# Altium schematic symbol library My Library.SCHLIB: 126 symbols
Pins are listed as number, name and electrical type; pins without a type are passive.

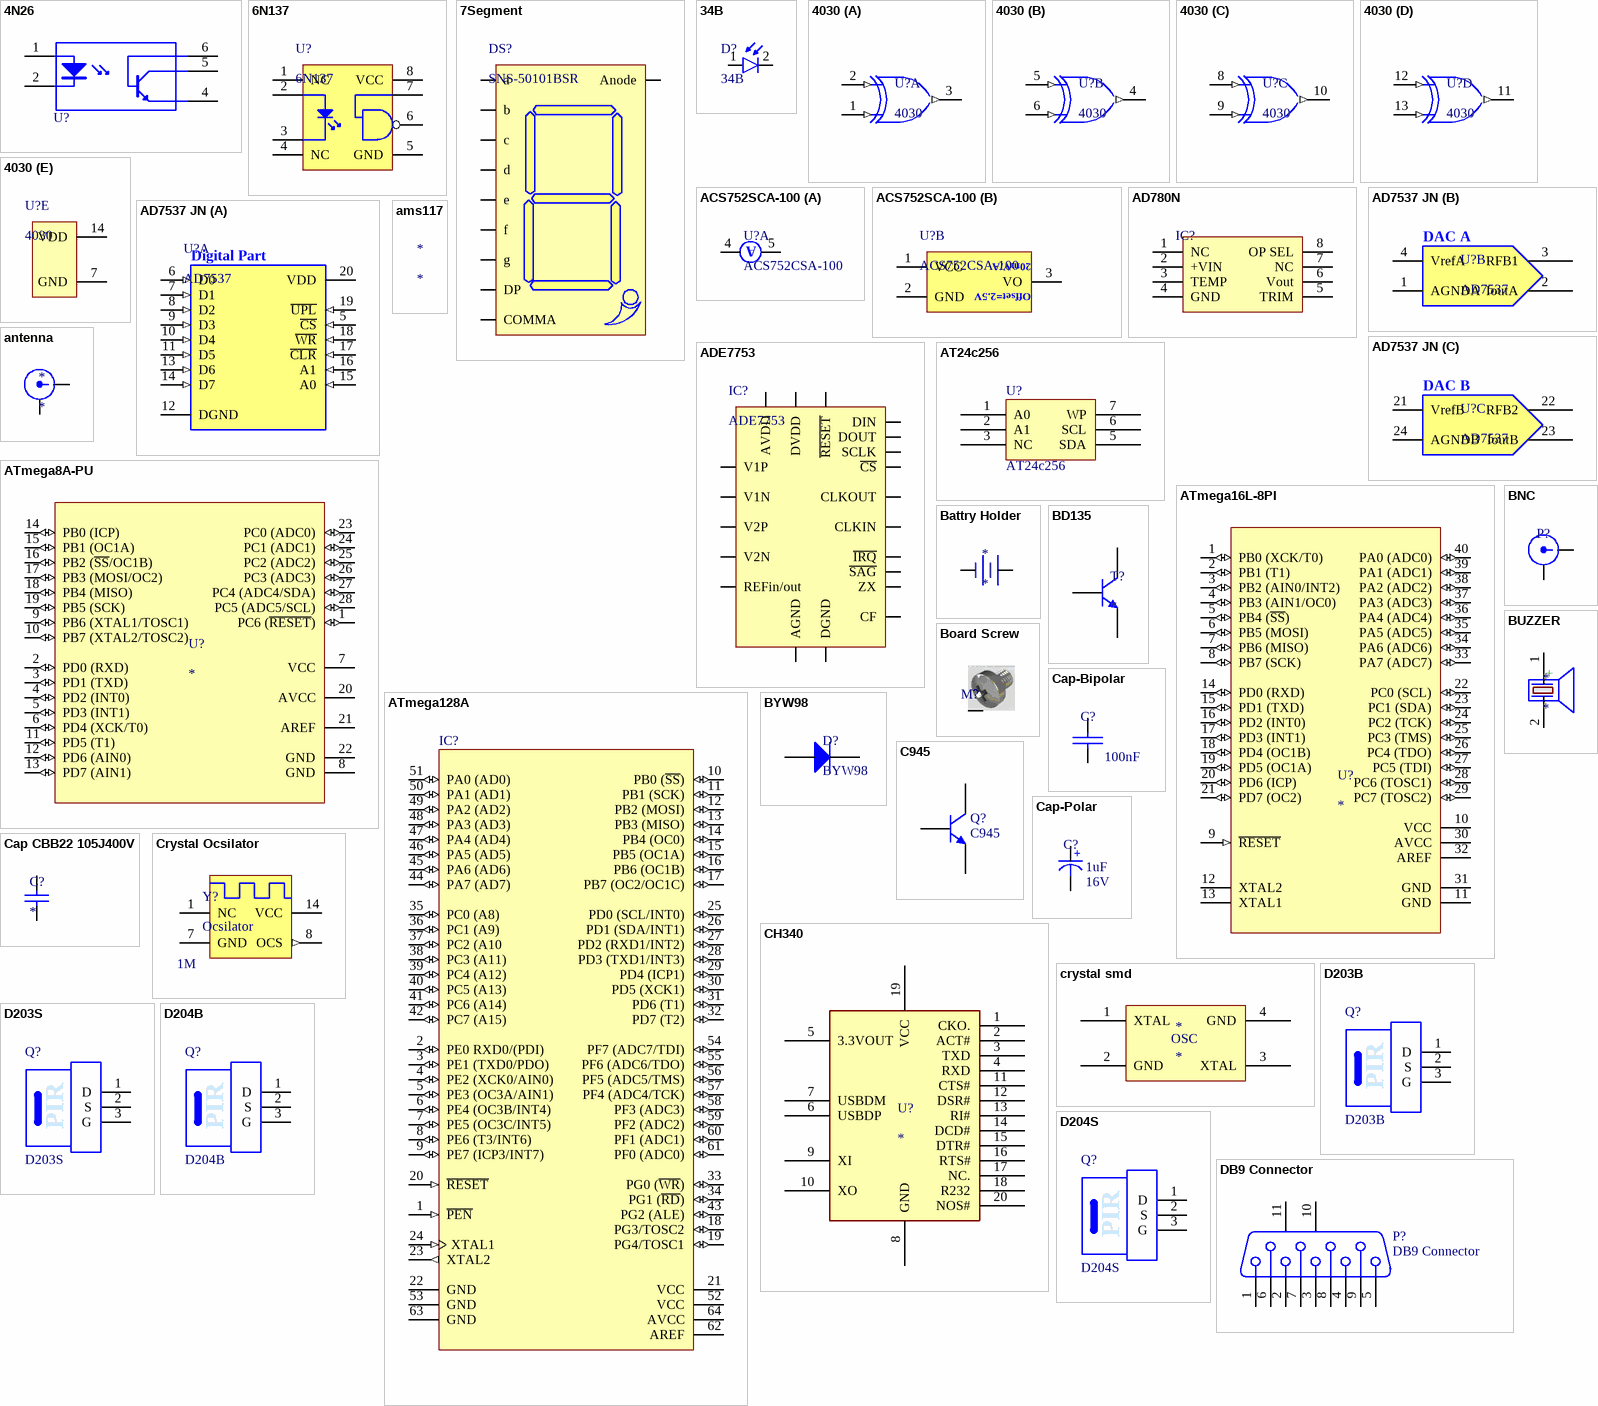
[diagram p0: symbols 4N26 to DB9 Connector]

## 4N26
designator U?  (value not drawn)
Opto Coupler
footprint 4N26
pins: 1 A, 2 K, 4 E, 5 C, 6 B

## 6N137
designator U?
HIGH SPEED-10 MBit/s  LOGIC GATE OPTOCOUPLERS; Designer: Saeid Jorablo; Company: ControTEK; Adding Date: 1387/01/08
footprint DIP8
pins: 1 NC, 2 A, 3 K, 4 NC, 5 GND, 6 Vo, 7 Ve, 8 VCC

## 7Segment
designator DS?, comment SNS-50101BSR
footprint 7Segment
pins: 1 e, 2 d, 3 COMMA, 4 DP, 5 c, 6 b, 7 a, 8 Anode, 9 g, 10 f

## 34B
designator D?
Photodiode; Designer: Saeid Jorablo; Company: Personal; Project Name: Laser; Adding Date: 10/21/2009
footprint 34b
pins: 1 A, 2 K

## 4030
designator U?
Quad XOR Gate
footprint DIP14
footprint SO14_NARROW_L
footprint SO14_Narrow_M
footprint SO14_NARROW_N
part A pins: 1 B (in), 2 A (in), 3 J (out)
part B pins: 4 K (out), 5 C (in), 6 D (in)
part C pins: 8 E (in), 9 F (in), 10 L (out)
part D pins: 11 M (out), 12 G (in), 13 H (in)
part E pins: 7 GND (power), 14 VDD (power)

## ACS752SCA-100
designator U?, comment ACS752CSA-100
Current Sensor; Designer: Saeid Jorablo; Company: ControTEK; Output Current: -/+ 100A; Supply Voltage: +5V; Volts Per Amper: 20mV/A; Output Offset: 2.5V; Adding Date: 1387/01/09
footprint ACS752SCA-100
part A pins: 4 Ip+, 4a, 4b, 4c, 4d, 4e, 4f, 5 Ip-, 5a, 5b, 5c, 5d, 5e, 5f
part B pins: 1 VCC (power), 2 GND (power), 3 VO
part A text: A
part B text: Offset=2.5V

## AD780N
designator IC?  (value not drawn)
2.5 V/3.0 V  High Precision Reference; Company: E.P.I.L; Design Date: 2011/11/02
footprint SOIC8-Narrow (SOIC, 8-Leads, Body 3.0x3.0mm (max), Pitch 1.27mm, IPC Medium Density)
pins: 1 NC, 2 +VIN, 3 TEMP, 4 GND, 5 TRIM, 6 Vout, 7 NC, 8 OP SEL

## AD7537 JN
designator U?, comment AD7537
LC2 MOS (8+4) Loading Dual 12-Bit DAC; Manufacturer: Alanog Devices; Designer: Saeid Jorablo; Company: ControTec; Adding Date: 1387/12/22; ComponentLink1Description: Datasheet; ComponentLink1URL: http://www.analog.com/static/imported-files/data_sheets/AD7537.pdf; ComponentLink2URL: http://www.analog.com/en/digital-to-analog-converters/da-converters/ad7537/products/product.html; ComponentLink2Description: Reference
footprint DIP D24A
signal-integrity model AD7537 (LC2MOS)
part A pins: 5 ~{CS} (in), 6 D0 (in), 7 D1 (in), 8 D2 (in), 9 D3 (in), 10 D4 (in), 11 D5 (in), 12 DGND (power), 13 D6 (in), 14 D7 (in), 15 A0 (in), 16 A1 (in), 17 ~{CLR} (in), 18 ~{WR} (in), 19 ~{UPL} (in), 20 VDD (power)
part B pins: 1 AGNDA (power), 2 IoutA, 3 RFB1, 4 VrefA
part C pins: 21 VrefB, 22 RFB2, 23 IoutB, 24 AGNDB (power)
part A text: Digital Part
part B text: DAC A
part C text: DAC B

## ADE7753
designator IC?
Single-Phase Multifunction Metering IC  with di/dt Sensor Interface; Designer: Eng. Saeid Jorablo; Company: E.P.I.L; DesignDate: 2011/10/31
footprint SSOP65P780X200-20M (SOP, 20-Leads, Body 7.5x5.6mm (max), Pitch 0.65mm, IPC Low Density)
pins: 1 ~{RESET}, 2 DVDD, 3 AVDD, 4 V1P, 5 V1N, 6 V2N, 7 V2P, 8 AGND, 9 REFin/out, 10 DGND, 11 CF, 12 ZX, 13 ~{SAG}, 14 ~{IRQ}, 15 CLKIN, 16 CLKOUT, 17 ~{CS}, 18 SCLK, 19 DOUT, 20 DIN

## ams117
designator *
footprint SOT223 (SOT223, 4-Leads, Body 6.5x3.5mm, Pitch 2.30mm-Designer Abbas Basereh)
footprint SOT223_L (SOT223, 4-Leads, Body 6.5x3.5mm, Pitch 2.3mm, Lead Span 7mm, IPC High Density)
footprint SOT223_M (SOT223, 4-Leads, Body 6.5x3.5mm, Pitch 2.3mm, Lead Span 7mm, IPC Low Density)
footprint SOT223_N (SOT223, 4-Leads, Body 6.5x3.5mm, Pitch 2.3mm, Lead Span 7mm, IPC Medium Density)

## antenna
designator *
footprint SMA
footprint U.FL SMD (U.FL Antenna-Design:Ali Hafizi)
pins: 1, 2

## AT24c256
designator U?
EEPROM Memory
footprint dip8
pins: 1 A0, 2 A1, 3 NC, 4 GND (power) hidden to GND, 5 SDA, 6 SCL, 7 WP, 8 VCC hidden to VCC

## ATmega8A-PU
designator U?
footprint 28P3 (DIP, 28-Leads, Row Spacing 7.62mm, Pitch 2.54mm, Body 34.67x7.3mm)
pins: 1 PC6 (~{RESET}) (io), 2 PD0 (RXD) (io), 3 PD1 (TXD) (io), 4 PD2 (INT0) (io), 5 PD3 (INT1) (io), 6 PD4 (XCK/T0) (io), 7 VCC (power), 8 GND (power), 9 PB6 (XTAL1/TOSC1) (io), 10 PB7 (XTAL2/TOSC2) (io), 11 PD5 (T1) (io), 12 PD6 (AIN0) (io), 13 PD7 (AIN1) (io), 14 PB0 (ICP) (io), 15 PB1 (OC1A) (io), 16 PB2 (~{SS}/OC1B) (io), 17 PB3 (MOSI/OC2) (io), 18 PB4 (MISO) (io), 19 PB5 (SCK) (io), 20 AVCC (power), 21 AREF, 22 GND (power), 23 PC0 (ADC0) (io), 24 PC1 (ADC1) (io), 25 PC2 (ADC2) (io), 26 PC3 (ADC3) (io), 27 PC4 (ADC4/SDA) (io), 28 PC5 (ADC5/SCL) (io)

## ATmega16L-8PI
designator U?
footprint 40P6 (DIP, 40-Leads, Row Spacing 15.24mm, Pitch 2.54mm, Body 52.2x13.95mm)
pins: 1 PB0 (XCK/T0) (io), 2 PB1 (T1) (io), 3 PB2 (AIN0/INT2) (io), 4 PB3 (AIN1/OC0) (io), 5 PB4 (~{SS}) (io), 6 PB5 (MOSI) (io), 7 PB6 (MISO) (io), 8 PB7 (SCK) (io), 9 ~{RESET} (in), 10 VCC (power), 11 GND (power), 12 XTAL2, 13 XTAL1, 14 PD0 (RXD) (io), 15 PD1 (TXD) (io), 16 PD2 (INT0) (io), 17 PD3 (INT1) (io), 18 PD4 (OC1B) (io), 19 PD5 (OC1A) (io), 20 PD6 (ICP) (io), 21 PD7 (OC2) (io), 22 PC0 (SCL) (io), 23 PC1 (SDA) (io), 24 PC2 (TCK) (io), 25 PC3 (TMS) (io), 26 PC4 (TDO) (io), 27 PC5 (TDI) (io), 28 PC6 (TOSC1) (io), 29 PC7 (TOSC2) (io), 30 AVCC (power), 31 GND (power), 32 AREF, 33 PA7 (ADC7) (io), 34 PA6 (ADC6) (io), 35 PA5 (ADC5) (io), 36 PA4 (ADC4) (io), 37 PA3 (ADC3) (io), 38 PA2 (ADC2) (io), 39 PA1 (ADC1) (io), 40 PA0 (ADC0) (io)

## ATmega128A
designator IC?
8-bit AVR Microcontroller, 128KB Flash, 4KB EEPROM, 4KB SRAM, 64-pin TQFP, Industrial Grade (-40°C to 85°C); Published: 1-Apr-2010; DatasheetVersion: revE, Feb-2010; PackageVersion: revB, Oct-2001; PackageReference: 64A; Publisher: Altium Limited; PackageDescription: 64-Pin Plastic Thin Profile Quad Flat Pack, 14 x 14 x 1.0 mm Body, 0.8 mm Pitch (TQFP); Supplier 1: Digi-Key; Supplier Part Number 1: ATMEGA128A-AU-ND; Supplier 2: Farnell; Supplier Part Number 2: 1773397; Supplier 3: Mouser; Supplier Part Number 3: 556-ATMEGA128A-AU; Code_JEDEC: MS-026-AEB; ComponentLink1Description: Manufacturer Link; ComponentLink1URL: http://www.atmel.com/products/avr/default.asp?; ComponentLink2Description: ATmega128A Datasheet; ComponentLink2URL: http://www.atmel.com/dyn/resources/prod_documents/doc8151.pdf; ComponentLink3Description: ATmega128A Summary; ComponentLink3URL: http://www.atmel.com/dyn/resources/prod_documents/8151S.pdf; ComponentLink4Description: Atmel.com Home; ComponentLink4URL: http://www.atmel.com
footprint 64A_N (Thin QFP, 64-Leads, Body 14x14mm, Pitch 0.8mm, IPC Medium Density)
footprint 64A_L (Thin QFP, 64-Leads, Body 14x14mm, Pitch 0.8mm, IPC High Density)
footprint 64A_M (Thin QFP, 64-Leads, Body 14x14mm, Pitch 0.8mm, IPC Low Density)
pins: 1 ~{PEN} (in), 2 PE0 RXD0/(PDI) (io), 3 PE1 (TXD0/PDO) (io), 4 PE2 (XCK0/AIN0) (io), 5 PE3 (OC3A/AIN1) (io), 6 PE4 (OC3B/INT4) (io), 7 PE5 (OC3C/INT5) (io), 8 PE6 (T3/INT6) (io), 9 PE7 (ICP3/INT7) (io), 10 PB0 (~{SS}) (io), 11 PB1 (SCK) (io), 12 PB2 (MOSI) (io), 13 PB3 (MISO) (io), 14 PB4 (OC0) (io), 15 PB5 (OC1A) (io), 16 PB6 (OC1B) (io), 17 PB7 (OC2/OC1C) (io), 18 PG3/TOSC2 (io), 19 PG4/TOSC1 (io), 20 ~{RESET} (in), 21 VCC (power), 22 GND (power), 23 XTAL2 (out), 24 XTAL1 (in), 25 PD0 (SCL/INT0) (io), 26 PD1 (SDA/INT1) (io), 27 PD2 (RXD1/INT2) (io), 28 PD3 (TXD1/INT3) (io), 29 PD4 (ICP1) (io), 30 PD5 (XCK1) (io), 31 PD6 (T1) (io), 32 PD7 (T2) (io), 33 PG0 (~{WR}) (io), 34 PG1 (~{RD}) (io), 35 PC0 (A8) (io), 36 PC1 (A9) (io), 37 PC2 (A10 (io), 38 PC3 (A11) (io), 39 PC4 (A12) (io), 40 PC5 (A13) (io), 41 PC6 (A14) (io), 42 PC7 (A15) (io), 43 PG2 (ALE) (io), 44 PA7 (AD7) (io), 45 PA6 (AD6) (io), 46 PA5 (AD5) (io), 47 PA4 (AD4) (io), 48 PA3 (AD3) (io), 49 PA2 (AD2) (io), 50 PA1 (AD1) (io), 51 PA0 (AD0) (io), 52 VCC (power), 53 GND (power), 54 PF7 (ADC7/TDI) (io), 55 PF6 (ADC6/TDO) (io), 56 PF5 (ADC5/TMS) (io), 57 PF4 (ADC4/TCK) (io), 58 PF3 (ADC3) (io), 59 PF2 (ADC2) (io), 60 PF1 (ADC1) (io), 61 PF0 (ADC0) (io), 62 AREF (power), 63 GND (power), 64 AVCC (power)

## Battry Holder
designator *
Battry Backup; Edit: A.yousefi; Edit Date: 4/27/2020
footprint BAT Backup
footprint BTH1220 (COIN CELL BATTERY HOLDER 1220 12mm CR1220)
pins: 1 +, 2 -

## BD135
designator T?
NPN Transistor
footprint TO-126 (SOT32) Gold PCB (Design:Abbas Basereh)
footprint TO-126 (SOT32) Gold PCB With HatSink (Design:Abbas Basereh)
pins: 1 E, 2 C, 3 B

## BNC
designator P?  (value not drawn)
BNC Socket, PCB Mounted; designer: Saeid Jorablo; Company: ACR; Signal Name: *; adding date: 2009-12-19
footprint BNC - Connector
footprint BNC - Complex
pins: 1, 2

## Board Screw
designator M?, comment Screw  (value not drawn)
Board Screw With Spacer
footprint Board Screw
footprint Board Screw_No Silk
pins: S

## BUZZER
designator *
footprint BUZZER 7.62mm DC (BUZZER 12mm DIA , 7.62mm pitch DESIGNER ABBAS BASEREH)
pins: 1 +, 2 -

## BYW98
designator D?
HIGH EFFICIENCY FAST RECOVERY RECTIFIER DIODES; Designer: Saeid Jorablo; Company: ControTEK; IF(av): 3 A; Vrrm: 200 V; Trr (max): 35 ns; Adding Date: 1387/01/10
footprint BYW98
pins: 1 A, 2 K

## C945
designator Q?
NPN Transistor; Designer: Saeid Jorablo; Company: IPA CO; Last Update Time: 2008/08/04; Value: C945
footprint C945 (NPN Transistor Footprint)
footprint SOT23_L (SOT23, 3-Leads, Body 2.9x1.3mm, Pitch 0.95mm, Lead Span 2.3mm, IPC High Density)
footprint SOT23_M (SOT23, 3-Leads, Body 2.9x1.3mm, Pitch 0.95mm, Lead Span 2.3mm, IPC Low Density)
footprint SOT23_N (SOT23, 3-Leads, Body 2.9x1.3mm, Pitch 0.95mm, Lead Span 2.3mm, IPC Medium Density)
pins: 1 E, 2 C, 3 B

## Cap CBB22 105J400V
designator C?
Disigner: Abbas Basereh
footprint CBB22 (W23_0_H14_5_T8_0_P19)
pins: 1, 2

## Cap-Bipolar
designator C?, comment 100nF
Bipolar Capacitor; Voltage: 100V; Designer: Saeid Jorablo; Organazation: ControTec; Adding Date: 1387/12/20; Value: 100nF
footprint Cap 1uF-400v-Right
footprint Cap 1uF-400V-Stand
footprint Cap - 100nF
footprint Cap - 100nF - 2
footprint Cap_680nF
footprint CAP 1206 (3216X15L) (Chip Capacitor, 2-Leads, Body 3.2x1.6mm, IPC High Density)
footprint CAPP 1206 (3216X18L) Size A (Chip Capacitor, 2-Leads, Body 3.2x1.6mm, IPC High Density, chip Tantalum)
footprint Cap - 10nF - 630V
footprint Cap - 100nF - 400V
footprint Cap - 220n - 400V - Poly
footprint Cap - 330nF - 400V
footprint SMD_CAP_0603
footprint SMD_CAP_0805
footprint SMD_CAP_1206
footprint CAP0201 (Chip Capacitor, 2-Leads, Body 0/60x0/30mm, IPC Medium Density DESIGNER:ABBAS BASEREH)
footprint CAP0402 (Chip Capacitor, 2-Leads, Body 1/00x0/50mm, IPC Medium Density DESIGNER:ABBAS BASEREH)
footprint CAP0603 (Chip Capacitor, 2-Leads, Body 1/60x0/80mm, IPC Medium Density DESIGNER:ABBAS BASEREH)
footprint CAP1210 (Chip Capacitor, 2-Leads, Body 3/20x2/50mm, IPC Medium Density DESIGNER:ABBAS BASEREH)
footprint CAP1812 (Chip Capacitor, 2-Leads, Body 4/50x3/20mm, IPC Medium Density DESIGNER:ABBAS BASEREH)
footprint CAP2010 (Chip Capacitor, 2-Leads, Body 5/00x2/50mm, IPC Medium Density DESIGNER:ABBAS BASEREH)
footprint CAP2512 (Chip Capacitor, 2-Leads, Body 6/40x3/20mm, IPC Medium Density DESIGNER:ABBAS BASEREH)
pins: 1 +, 2 -

## Cap-Polar
designator C?, comment Voltage: 16V  (hidden comment: 1uF)
Polar Capacitor; Designer: Saeid Jorablo; Organazation: ControTec; Adding Date: 1387/12/20; Value: 1uF
footprint Cap electrolitic radial 10x16-5 (Cap electrolitic radial 10x16-5-Design:Abbas Basereh)
footprint Cap electrolitic radial 10x20-5 (Cap electrolitic radial 10x20-5-Design:Abbas Basereh)
footprint Cap electrolitic radial 10x25-5 (Cap electrolitic radial 10x25-5-Design:Abbas Basereh)
footprint Cap electrolitic radial 10x30-5 (Cap electrolitic radial 10x30-5-Design:Abbas Basereh)
footprint Cap electrolitic radial 12.5x20-5 (Cap electrolitic radial 12.5x20-5-Design:Abbas Basereh)
footprint Cap electrolitic radial 12.5x25-5 (Cap electrolitic radial 12.5x25-5-Design:Abbas Basereh)
footprint Cap electrolitic radial 13x25-5 (Cap electrolitic radial 13x25-5-Design:Abbas Basereh)
footprint Cap electrolitic radial 16x26-7.5 (Cap electrolitic radial 16x26-7.5-Design:Abbas Basereh)
footprint Cap electrolitic radial 12.5x21.5-5 (Cap electrolitic radial 12.5x21.5-5-Design:Ali Hafizi)
footprint Cap electrolitic radial 18x26 (Cap electrolitic radial 18x26-Design:Abbas Basereh)
footprint Cap electrolitic radial 18x36-7.5 (Cap electrolitic radial 18x36-7.5-Design:Abbas Basereh)
footprint Cap electrolitic radial 8x14-3.5 (Cap electrolitic radial 8x14-3.5-Design:Abbas Basereh)
footprint Cap electrolitic radial 8x12-3.5 (Cap electrolitic radial 8x12-3.5-Design:Abbas Basereh)
footprint Cap electrolitic radial 8x11.5-3.5 (Cap electrolitic radial 8x11.5-3.5-Design:Ali Hafizi)
footprint Cap electrolitic radial 6x7-2.5 (Cap electrolitic radial 6x7-2.5-Design:Abbas Basereh)
footprint Cap electrolitic radial 6.3x12-2.5 (Capacitor Electrolytic D=6.3 x H=12 - P=2.5 mm, Altium Compatible)
footprint Cap electrolitic radial 5x12-2 (Cap electrolitic radial 5x12-2-Design:Abbas Basereh)
footprint Cap electrolitic radial 5x11-2 (Cap electrolitic radial 5x11-2-Design:Abbas Basereh)
footprint Cap electrolitic radial 4x7-1.5 (Cap electrolitic radial 5x11-2-Design:Ali Hafizi)
footprint CAP SMD 470uF (SMD CAP 470uF)
pins: 1 +, 2 -

## CH340
designator U?
TTL To USB Chip; Edit: A.Yousefi; Edit Date: 4/27/2020
footprint SOG65_20_700X530
pins: 1 CKO., 2 ACT#, 3 TXD, 4 RXD, 5 3.3VOUT, 6 USBDP, 7 USBDM, 8 GND, 9 XI, 10 XO, 11 CTS#, 12 DSR#, 13 RI#, 14 DCD#, 15 DTR#, 16 RTS#, 17 NC., 18 R232, 19 VCC, 20 NOS#

## Crystal Ocsilator
designator Y?, comment Ocsilator  value 1M
Crystal Ocsilator; Designer: Saeid Jorablo; Organazation: ControTec; Adding Date: 1387/12/22; ComponentLink1Description: Datasheet; ComponentLink1URL: http://scrltd.co.il/admin/products/technicalFile/SCO-020.pdf
footprint OCS
signal-integrity model Model Name (Model Description)
pins: 1 NC, 7 GND (power), 8 OCS (out), 14 VCC (power)

## crystal smd
designator *
High frequency stability and reliability SEAM CRYSTAL
footprint SMD SEAM CRYSTAL SX5711 (High frequency stability and reliability.DESIGNER ABBAS BASEREH)
pins: 1 XTAL, 2 GND (power), 3 XTAL, 4 GND (power)
text: OSC

## D203B
designator Q?
Pyroelectric Infrared  Radial Sensor; Designer: Saeid Jorablo; Company: IPA CO.; Last Update Time: 2008/07/17; Value: D203B
footprint PIR-B Type (For D203B and D204B PIR Sensors)
pins: 1 D "Drain", 2 S "Source", 3 G "Ground"
text: PIR

## D203S
designator Q?
Pyroelectric Infrared  Radial Sensor; Designer: Saeid Jorablo; Company: IPA CO.; Last Update Time: 2008/07/17; Value: D203S
footprint PIR-S Type (For D203S and D204S PIR Sensors)
pins: 1 D "Drain", 2 S "Source", 3 G "Ground"
text: PIR

## D204B
designator Q?
Pyroelectric Infrared  Radial Sensor; Designer: Saeid Jorablo; Company: IPA CO.; Last Update Time: 2008/07/17; Value: D204B
footprint PIR-B Type (For D203B and D204B PIR Sensors)
pins: 1 D "Drain", 2 S "Source", 3 G "Ground"
text: PIR

## D204S
designator Q?
Pyroelectric Infrared  Radial Sensor; Designer: Saeid Jorablo; Company: IPA Co.; Last Update Time: 2008/07/17; Value: D204S
footprint PIR-S Type (For D203S and D204S PIR Sensors)
footprint PIR-B Type (For D203B and D204B PIR Sensors)
pins: 1 D "Drain", 2 S "Source", 3 G "Ground"
text: PIR

## DB9 Connector
designator P?
Receptacle Assembly, 9 Position, Right Angle; PackageDocument: O; Positions: 9; Published: 15-Jun-2001; LatestRevisionDate: 17-Jul-2002; LatestRevisionNote: Re-released for DXP Platform.; DatasheetDocument: 1-Sep-1999; PackageReference: 788750; Publisher: Altium Limited; Orientation: Right Angle; Gender: Receptacle
signal-integrity model Connector
footprint DB9 Female (Connector; D Subminiature AMPLIMITE 2000; 9 Position; Right Angle)
footprint DB9 Male (Connector; D Subminiature AMPLIMITE 2000; 9 Position; Right Angle)
pins: 1, 2, 3, 4, 5, 6, 7, 8, 9, 10 MH1, 11 MH2

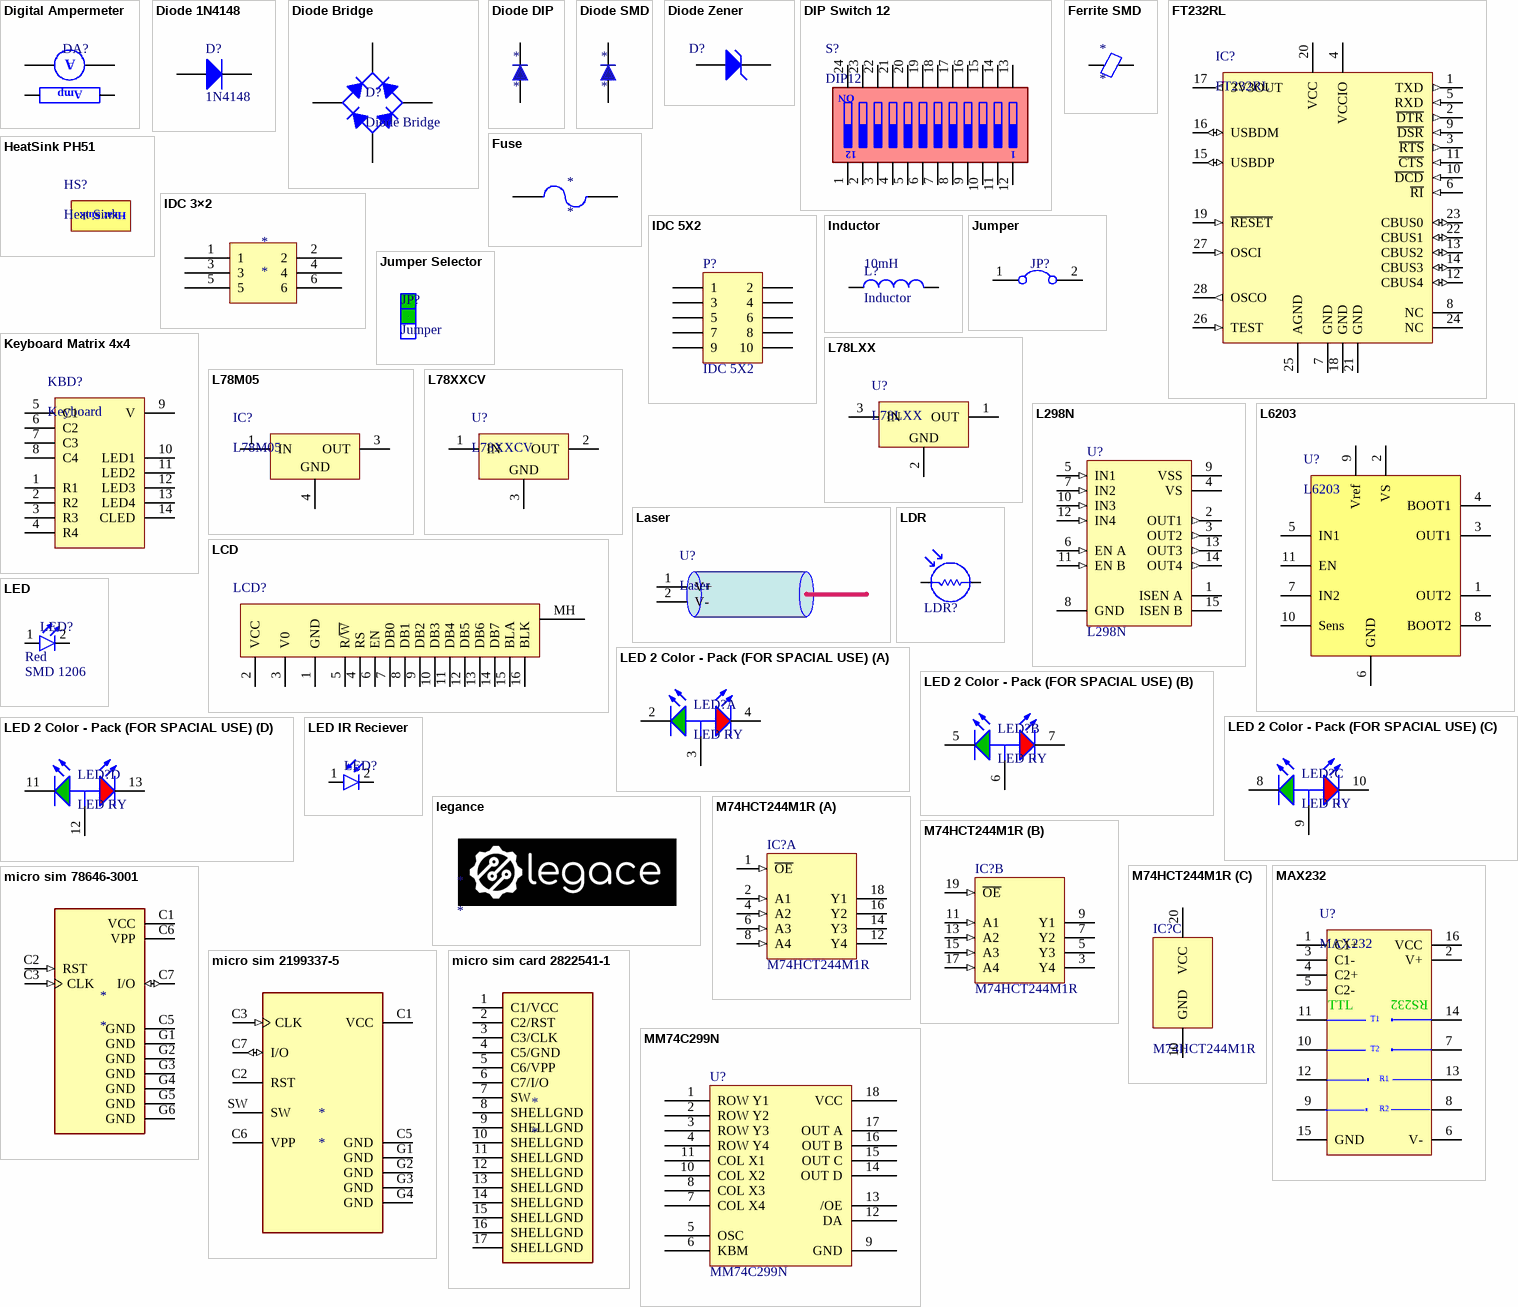
[diagram p1: symbols Digital Ampermeter to MM74C299N]

## Digital Ampermeter
designator DA?  (value not drawn)
Designer: Saeid Jorablo; Company: ControTec; Adding Date: 1387/12/24
footprint HEADER 4X1 (Footprint not found)
pins: 1 I+, 2 I-, 3 GND, 4 VCC
text: A; Amp

## Diode 1N4148
designator D?, comment 1N4148
High Conductance Fast Diode; Published: 8-Jun-2000; LatestRevisionDate: 17-Jul-2002; LatestRevisionNote: Re-released for DXP Platform.; DatasheetVersion: 1997; PackageReference: DO-35; Publisher: Altium Limited; PackageDescription: Diode, Axial; Body 3.8 x 1.9 mm (LxDia. max), Lead Dia. 0.53 mm (max); Code_JEDEC: DO-204-AH; ComponentLink1Description: Manufacturer Link; ComponentLink1URL: http://www.fairchildsemi.com/; ComponentLink2Description: Datasheet; ComponentLink2URL: http://www.fairchildsemi.com/ds/1N%2F1N4148.pdf
footprint DO-35 (Diode, Axial; Body 3.8 x 1.9 mm (LxDia. max), Lead Dia. 0.53 mm (max))
signal-integrity model 1N4148
footprint LL4148 (MELF Diode, 2-Leads, Body 3.5x1.4mm, IPC Medium Density)
pins: 1 A, 2 K

## Diode Bridge
designator D?
Full Wave Diode Bridge; Company: E.P.I.L; Edit: A.yousefi; Design Date: 2011/11/02; Edit Date: 4/27/2020
footprint Bridge
footprint Diode Bridge
footprint Bridge DB107 Package (DB107 Bridge Rectifiers DESIGNER :Ali Hafizi)
footprint Bridge GBU PACKAGE (GBU Bridge Rectifiers DESIGNER :ABBAS BASEREH)
footprint Bridge KBJ PACKAGE (KBJ Bridge Rectifiers DESIGNER :ABBAS BASEREH)
footprint Bridge KBL PACKAGE (KBL Bridge Rectifiers DESIGNER :ABBAS BASEREH)
footprint Bridge KBP PACKAGE (KBP Bridge Rectifiers DESIGNER :ABBAS BASEREH)
footprint Bridge KBU PACKAGE (KBU Bridge Rectifiers DESIGNER :ABBAS BASEREH)
footprint Bridge WOB PACKAGE (WOB Bridge Rectifiers DESIGNER :ABBAS BASEREH)
footprint Bridge SMD Package (SMD Bridge Rectifiers DESIGNER :Ali Hafizi)
pins: 1 +, 2 AC, 3 AC, 4 -

## Diode DIP
designator *
footprint DO 35 (Diode)
footprint Diode 1n4007 (Diode 1N4007 : 1.0A RECTIFIER Case: DO-41 Case Material: Molded Plastic Terminals: Finish - Bright Tin Weight: 0.30 grams)
footprint Diode 1N4007 Stand
footprint Diode 1n4148
footprint Diode 1n4148 Stand
footprint Diode 1n5819 (Schottkey 1.0A 40V)
footprint Diode 1W
footprint Diode 1W Stand
pins: 1, 2

## Diode SMD
designator *
footprint DIO0201 (Chip Diode, 2-Leads, Body 0/60x0/30mm, IPC Medium Density DESIGNER:ABBAS BASEREH)
footprint DIO0402 (Chip Diode, 2-Leads, Body 1/00x0/50mm, IPC Medium Density DESIGNER:ABBAS BASEREH)
footprint DIO0603 (Chip Diode, 2-Leads, Body 1/60x0/80mm, IPC Medium Density DESIGNER:ABBAS BASEREH)
footprint DIO0805 (Chip Diode, 2-Leads, Body 2/00x1/25mm, IPC Medium Density DESIGNER:ABBAS BASEREH)
footprint DIO1206 (Chip Diode, 2-Leads, Body 3/20x1/60mm, IPC Medium Density DESIGNER:ABBAS BASEREH)
footprint DIO1210 (Chip Diode, 2-Leads, Body 3/20x2/50mm, IPC Medium Density DESIGNER:ABBAS BASEREH)
footprint DIO1812 (Chip Diode, 2-Leads, Body 4/50x3/20mm, IPC Medium Density DESIGNER:ABBAS BASEREH)
footprint DIO2010 (Chip Diode, 2-Leads, Body 5/00x2/50mm, IPC Medium Density DESIGNER:ABBAS BASEREH)
footprint DIO2512 (Chip Diode, 2-Leads, Body 6/40x3/20mm, IPC Medium Density DESIGNER:ABBAS BASEREH)
pins: 1, 2

## Diode Zener
designator D?  (value not drawn)
Zener Diode; Designer: Saeid Jorablo; Company: E.P.I.L; Voltage: 3.3 V; Design Date: 2011/11/02
footprint Diode 1W
footprint Diode 1W_Stand
pins: 1 A, 2 K

## DIP Switch 12
designator S?, comment DIP12
12 BIT DIP Switch; Designer: Saeid Jorablo; Company: ControTEK; Digits: 12 Bit; edit: A.yousefi; Adding Date: 1387/01/12; edit date: 4/27/2020
footprint DIP Switch x12
pins: 1, 2, 3, 4, 5, 6, 7, 8, 9, 10, 11, 12, 13, 14, 15, 16, 17, 18, 19, 20, 21, 22, 23, 24
text: ON

## Ferrite SMD
designator *
Ferrite Bead SMD; Edit: A.yousefi; Edit Date: 4/27/2020
footprint FB0402 (Ferrite Chip Bead SMD 0402-Design:Ali Hafizi)
footprint FB0603 (Ferrite Chip Bead SMD 0603-Design:Ali Hafizi)
footprint FB0805 (Ferrite Chip Bead SMD 0805-Design:Ali Hafizi)
footprint FB1206 (Ferrite Chip Bead SMD 1206-Design:Ali Hafizi)
pins: 1, 2

## FT232RL
designator IC?
USB UART Asynchronous Serial Data Transfer Chip, SSOP-28, Tape and Reel; Published: 19-Aug-2010; DatasheetVersion: ver 2.07, Jul-2010; PackageVersion: 2010; PackageReference: SSOP-28; Publisher: Altium Limited; PackageDescription: 28-Pin Small Outline Package 0.65 mm Pitch; ComponentLink1Description: Manufacturer Link; ComponentLink1URL: http://www.ftdichip.com/Products/ICs/FT232R.htm; ComponentLink2Description: Datasheet; ComponentLink2URL: http://www.ftdichip.com/Support/Documents/DataSheets/ICs/DS_FT232R.pdf
footprint SSOP-28_N (SOP, 28-Leads, Body 10.2x5.3mm, Pitch 0.65mm, IPC Medium Density)
footprint SSOP-28_L (SOP, 28-Leads, Body 10.2x5.3mm, Pitch 0.65mm, IPC High Density)
footprint SSOP-28_M (SOP, 28-Leads, Body 10.2x5.3mm, Pitch 0.65mm, IPC Low Density)
pins: 1 TXD (out), 2 ~{DTR} (out), 3 ~{RTS} (out), 4 VCCIO (power), 5 RXD (in), 6 ~{RI} (in), 7 GND (power), 8 NC, 9 ~{DSR} (in), 10 ~{DCD} (in), 11 ~{CTS} (in), 12 CBUS4 (io), 13 CBUS2 (io), 14 CBUS3 (io), 15 USBDP (io), 16 USBDM (io), 17 3V3OUT (out), 18 GND (power), 19 ~{RESET} (in), 20 VCC (power), 21 GND (power), 22 CBUS1 (io), 23 CBUS0 (io), 24 NC, 25 AGND (power), 26 TEST (in), 27 OSCI (in), 28 OSCO (out)

## Fuse
designator *
Fuses 5x20; Edit: A.yousefi; Edit Date: 4/27/2020
footprint Fuse 5x20 With holder pin (Dsigner : Abbas Basereh)
footprint 1206 FUSE (Fast Acting Smd 1206 non-Resettable Fuse Chip For Pcb Board-Design:Abbas Basereh)
pins: 1, 2

## HeatSink PH51
designator HS?, comment Heat Sink  (mechanical)
PH51 Heatsink
footprint HeatSink PH51

## IDC 3×2
designator *
footprint IDC_2X3 (IDC2X3 FOR PROGPIN AND JUMPER BOX AND ETC. DESIGNER ABBAS BASEREH)
pins: 1, 2, 3, 4, 5, 6

## IDC 5X2
designator P?
Header, 5-Pin, Dual row; LatestRevisionDate: 17-Jul-2002; LatestRevisionNote: Re-released for DXP Platform.; Publisher: Altium Limited
signal-integrity model Connector
footprint IDC2.54-V10D (Connector; IDC, Low Profile Male Header, Thru-Hole; 10 Position; Vertical; Pitch 2.54 mm; Body 20.32 x 9.2 x 9.45 mm (LxWxH))
footprint IDC2.54-H10C (Connector; IDC, Low Profile Male Header, Thru-Hole; 10 Position; Right Angle; Pitch 2.54 mm; Body 20.32 x 8.9 x 9.2 mm (LxWxH))
footprint IDC2.54-10PIN (Connector; IDC, Low Profile Male Header, Thru-Hole; 10 Position; Vertical; Pitch 2.54 mm; 20.32 x 9.2 x 9.45 mm (LxWxH) DESIGNER : ABBAS BASEREH)
pins: 1, 2, 3, 4, 5, 6, 7, 8, 9, 10

## Inductor
designator L?  value 10mH
Code_IEC: 1005; Published: 8-Jun-2000; LatestRevisionDate: 29-May-2009; LatestRevisionNote: IPC-7351 Footprint Added.; PackageReference: 0402-A; Publisher: Altium Limited; PackageDescription: Chip Inductor; Code_JEITA: 0402
footprint INDC1608L (Chip Inductor, Body 1.6x0.8mm, IPC High Density)
footprint INDC3216 (Chip Inductor, Body 3.2x1.6mm, IPC High Density)
footprint INDC4532 (Chip Inductor, Body 4.5x3.2mm, IPC High Density)
signal-integrity model Inductor
footprint Inductor SMD 3x3.2mm (Inductor 4.7µH SMD 3x3.2mm)
pins: 1, 2

## Jumper
designator JP?
Jumper; Company: E.P.I.L; Defualt State: Close; Design Date: 2011/11/02
footprint Jumper
footprint Jumper SMD
footprint Jumper Small - 2.54 - BLUE
footprint Jumper Small - 2.54 - GRAY
footprint Jumper Small - 2.54 - RED
footprint Jumper Small - 2.54 - GRAY - Open
footprint Jumper SMD - Small
pins: 1, 2

## Jumper Selector
designator JP?, comment Jumper
Jumper Selector
footprint jumper selector
footprint Jumper Selector SMD
pins: 1, 2, 3

## Keyboard Matrix 4x4
designator KBD?, comment Keyboard
Designer: Saeid Jorablo; Company: Personal; Project Name: Abtahi; Adding Date: 10/21/2009
footprint Keyboard (Matrix Keyboard 4x4)
pins: 1 R1, 2 R2, 3 R3, 4 R4, 5 C1, 6 C2, 7 C3, 8 C4, 9 V, 10 LED1, 11 LED2, 12 LED3, 13 LED4, 14 CLED

## L78LXX
designator U?
Fixed Voltage Low Power Regulator; Designer: Saeid Jorablo; Company: ControTec; Adding Date: 1387/01/06; Voltage: *
footprint 78LXX
pins: 1 OUT, 2 GND, 3 IN

## L78M05
designator IC?
Precision 500mA Regulator
footprint TO-252 (D-PAK/TO-252-AA; 3 Leads (1 Cropped); Body 10.1 (inc. leads) x 6.6 mm (LxW max))
footprint TO-263 (D2-PAK/TO-263-AB; 3 Leads (1 Cropped); Body 15.9 (inc. leads) x 10.4 mm (LxW max))
pins: 1 IN (power), 3 OUT (power), 4 GND (power)

## L78XXCV
designator U?
Fixed Voltage Regulator; Designer: Saeid Jorablo; Company: ControTec; Adding Date: 1387/01/06; Voltage: *
footprint 78XXCV - Right (Right Angle)
pins: 1 IN, 2 OUT, 3 GND

## L298N
designator U?
Dual Full Bridge Driver; Revision 1: 24-Aug-2001: Footprint Added.; Revision 2: 17-Jul-2002: Re-released for DXP Platform.; Package Information: Latest Revision: Apr-1998; Published: 8-Jun-2000; Datasheet: Latest Revision: Jul-1999; Package Reference: Multiwatt15H; Publisher: Altium Limited
footprint Multiwatt15H (TO, Thru-Hole, Horizontal, Heatsink Mounted; 15 Bent Staggered Leads; Pitch 1.27 mm)
footprint Multiwatt15V (TO, Thru-Hole, Vertical, Heatsink Mounted; 15 Bent Staggered Leads; Pitch 1.27 mm)
pins: 1 ISEN A, 2 OUT1 (out), 3 OUT2 (out), 4 VS (power), 5 IN1 (in), 6 EN A (in), 7 IN2 (in), 8 GND (power), 9 VSS (power), 10 IN3 (in), 11 EN B (in), 12 IN4 (in), 13 OUT3 (out), 14 OUT4 (out), 15 ISEN B

## L6203
designator U?
DMOS FULL BRIDGE DRIVER; Designer: Saeid Jorablo; Company: ControTEK; Adding Date: 1387/01/08
footprint MUlTIWATT11 (Use For L6203)
pins: 1 OUT2, 2 VS, 3 OUT1, 4 BOOT1, 5 IN1, 6 GND, 7 IN2, 8 BOOT2, 9 Vref, 10 Sens, 11 EN

## Laser
designator U?
Designer: Saeid Jorablo; Company: Personal; Project Name: Abtahi; Adding Date: 10/21/2009; Wave Lenght: *; Power: *; Voltage: *
footprint Laser
pins: 1 V+, 2 V-

## LCD
designator LCD?, comment 20x4  (value not drawn)
Designer: Saeid Jorablo; Company: My self; Adding Date: 10/21/2009; LCDType: 20x4
footprint LCD 20x4
footprint LCD 16x2 (Character LCD, 2 Row, 16 Colunm)
pins: 1 GND, 2 VCC, 3 V0, 4 RS, 5 R/~{W}, 6 EN, 7 DB0, 8 DB1, 9 DB2, 10 DB3, 11 DB4, 12 DB5, 13 DB6, 14 DB7, 15 BLA, 16 BLK, MH

## LDR
designator LDR?, comment PhotoCell  (value not drawn)
Photo Cell- Variable Resistor With Light; Company: IPA CO.; Designer: Saeid Jorablo; Last Update Time: 2008/07/17
footprint PhotoCell
pins: 1, 2

## LED
designator LED?, comment Size: SMD 1206  (hidden comment: Red)
LED; Designer: Saeid Jorablo; Organazation: ControTec; Adding Date: 1387/12/22; Color: Red
footprint LED-3mm
footprint LED-5mm
footprint LED-5mm-IR
footprint LED SMD 1206
footprint LED-RED (LED 3mm Right Angle - Color Red)
footprint LED-GREEN (LED 3mm Right Angle - Color Green)
footprint LED-YELLOW (LED 3mm Right Angle - Color Yellow)
footprint LED_SMD_0805 (SMD Mono-color Chip LED, body 2.0x1.25mm)
footprint LED_SMD_0603 (SMD Mono-color Chip LED, body 1.6x0.8mm)
pins: 1 A, 2 K

## LED 2 Color - Pack (FOR SPACIAL USE)
designator LED?, comment LED RY
Dual LED - Common Anode
footprint IDC14
part A pins: 2 A1, 3 K, 4 A2
part B pins: 5 A1, 6 K, 7 A2
part C pins: 8 A1, 9 K, 10 A2
part D pins: 11 A1, 12 K, 13 A2

## LED IR Reciever
designator LED?, comment IR Reciever  (value not drawn)
Infra Red Reciever Photo Diode; Designer: Saeid Jorablo; Organazation: ControTec; Adding Date: 1387/12/22
footprint LED-5mm-IR Reciver
pins: 1 A, 2 K

## legance
designator *
LEGANCE; Disigner: A.yousefi; Disigne Date: 4/27/2020
footprint legance

## M74HCT244M1R
designator IC?
Octal Bus Buffer with 3 State Outputs (Non Inverted); Published: 8-Jun-2000; LatestRevisionDate: 13-Apr-2006; LatestRevisionNote: IPC-7351 Footprint Added.; DatasheetVersion: Sep-1993; PackageVersion: Jul-2001; PackageReference: SO20; Publisher: Altium Limited; PackageDescription: 20-Pin Plastic Small Outline Integrated Circuit 1.27 mm Pitch; Code_JEDEC: MS-013-AC; Code_IPC: SOIC127P1030-20; ComponentLink1Description: Manufacturer Link; ComponentLink1URL: http://www.st.com/
footprint SO20_N (SOIC, 20-Leads, Body 12.8x7.5mm, Pitch 1.27mm, IPC Medium Density)
footprint SO20_L (SOIC, 20-Leads, Body 12.8x7.5mm, Pitch 1.27mm, IPC High Density)
footprint SO20_M (SOIC, 20-Leads, Body 12.8x7.5mm, Pitch 1.27mm, IPC Low Density)
signal-integrity model M74HCT244M1R
part A pins: 1 ~{OE} (in), 2 A1 (in), 4 A2 (in), 6 A3 (in), 8 A4 (in), 12 Y4 (hiz), 14 Y3 (hiz), 16 Y2 (hiz), 18 Y1 (hiz)
part B pins: 3 Y4 (hiz), 5 Y3 (hiz), 7 Y2 (hiz), 9 Y1 (hiz), 11 A1 (in), 13 A2 (in), 15 A3 (in), 17 A4 (in), 19 ~{OE} (in)
part C pins: 10 GND (power), 20 VCC (power)

## MAX232
designator U?
+5V Powered, Multi-Channel RS-232 Driver/Receiver; ComponentAuthor: Saeid Jorablo; ComponentLink1Description: Datasheet; ComponentLink1URL: http://pdfserv.maxim-ic.com/en/ds/MAX220-MAX249.pdf
footprint DIP16
footprint SO-16 (SOIC, 16-Leads, Body 9.9x3.9mm, Pitch 1.27mm, IPC Medium Density)
footprint NSO16_L (SOIC, 16-Leads, Body 9.9x3.9mm, Pitch 1.27mm, IPC High Density)
footprint NSO16_M (SOIC, 16-Leads, Body 9.9x3.9mm, Pitch 1.27mm, IPC Low Density)
footprint NSO16_N (SOIC, 16-Leads, Body 9.9x3.9mm, Pitch 1.27mm, IPC Medium Density)
pins: 1 C1+, 2 V+, 3 C1-, 4 C2+, 5 C2-, 6 V-, 7 T2OUT, 8 R2IN, 9 R2OUT, 10 T2IN, 11 T1IN, 12 R1OUT, 13 R1IN, 14 T1OUT, 15 GND (power), 16 VCC (power)
text: TTL; RS232; T1; T2; R1; R2

## micro sim 78646-3001
designator *
footprint 78646-3001
pins: C1 VCC (power), C2 RST (in), C3 CLK (in), C5 GND (power), C6 VPP (power), C7 I/O (io), G1 GND (power), G2 GND (power), G3 GND (power), G4 GND (power), G5 GND (power), G6 GND (power)

## micro sim 2199337-5
designator *
Conn Micro SIM Card RCP 8 POS 2.54mm Solder ST SMD 1A/Contact T/R
footprint 2199337-5
pins: C1 VCC (power), C2 RST, C3 CLK (in), C5 GND (power), C6 VPP, C7 I/O (io), G1 GND (power), G2 GND (power), G3 GND (power), G4 GND (power), SW

## micro sim card 2822541-1
designator *
footprint 2822541-1
pins: 1 C1/VCC, 2 C2/RST, 3 C3/CLK, 4 C5/GND, 5 C6/VPP, 6 C7/I/O, 7 SW, 8 SHELLGND, 9 SHELLGND, 10 SHELLGND, 11 SHELLGND, 12 SHELLGND, 13 SHELLGND, 14 SHELLGND, 15 SHELLGND, 16 SHELLGND, 17 SHELLGND

## MM74C299N
designator U?
16-Key Encoder
footprint DIP18
pins: 1 ROW Y1, 2 ROW Y2, 3 ROW Y3, 4 ROW Y4, 5 OSC, 6 KBM, 7 COL X4, 8 COL X3, 9 GND (power), 10 COL X2, 11 COL X1, 12 DA, 13 /OE, 14 OUT D, 15 OUT C, 16 OUT B, 17 OUT A, 18 VCC (power)

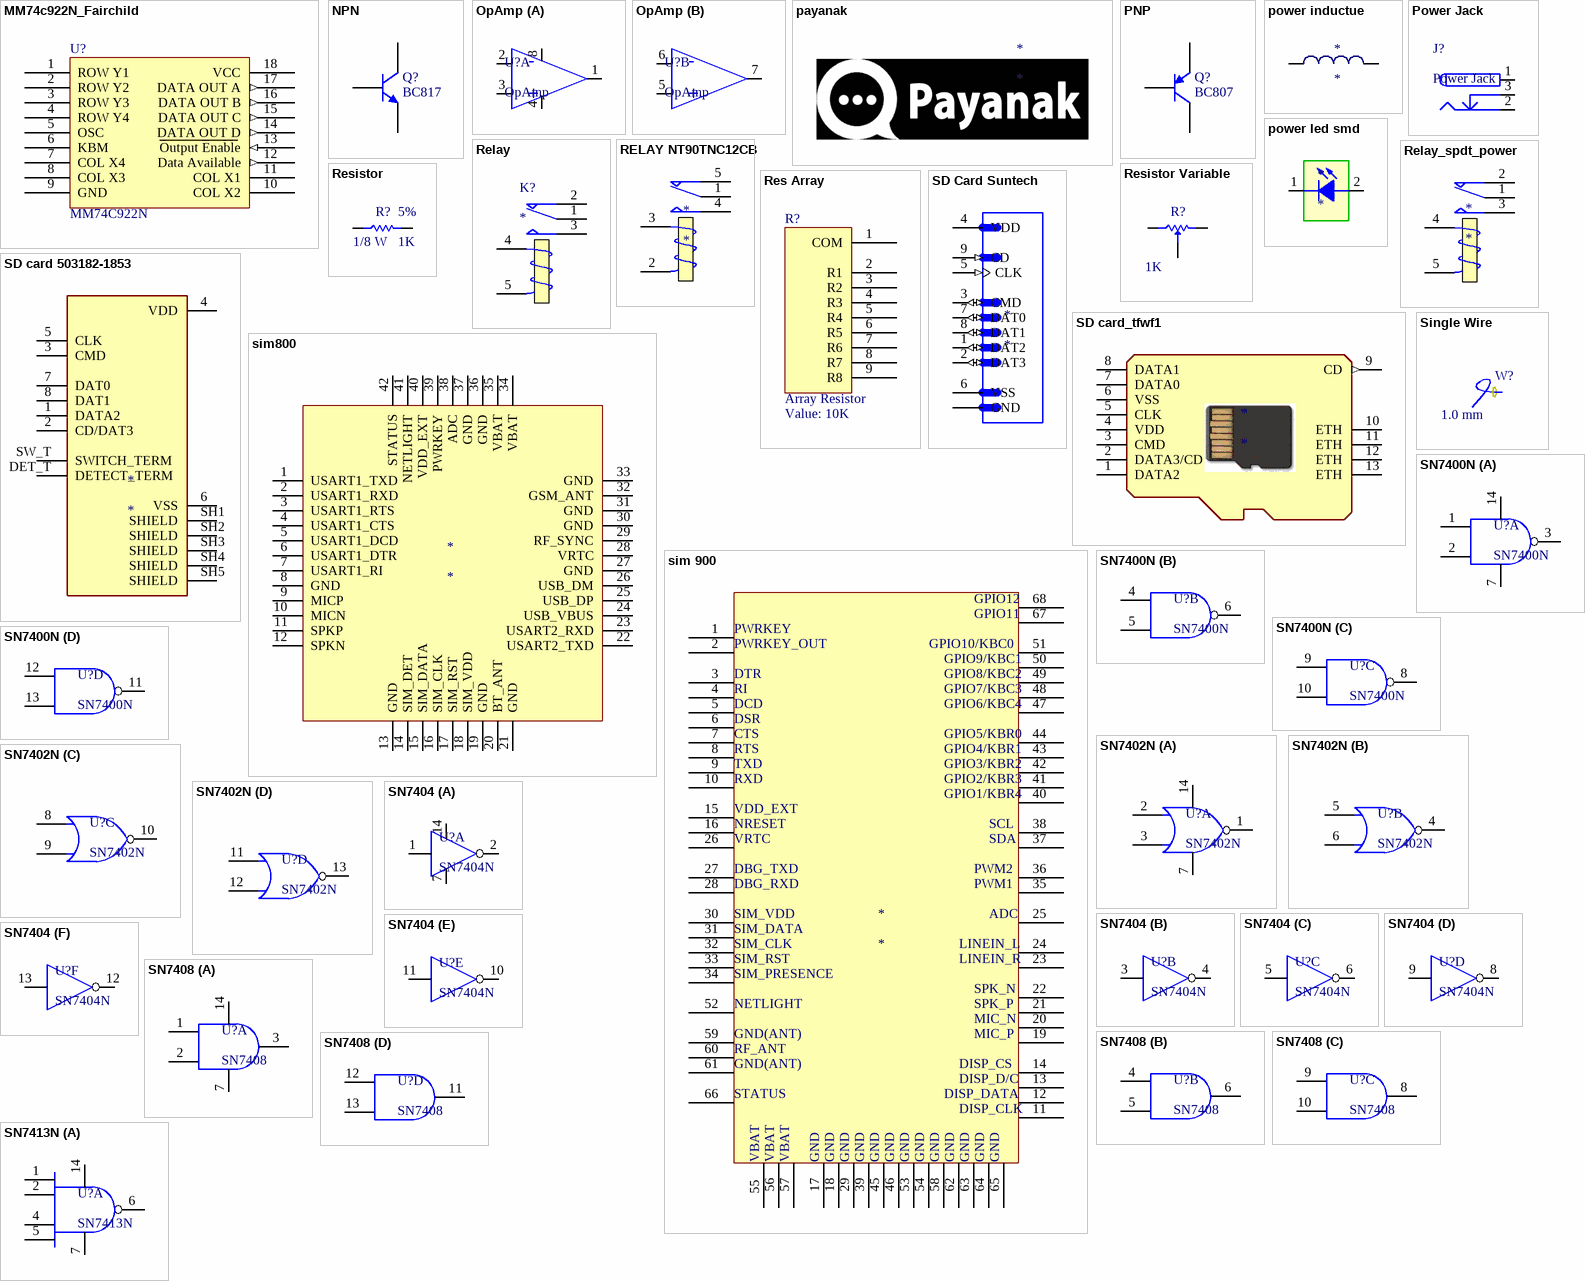
[diagram p2: symbols MM74c922N_Fairchild to SN7413N]

## MM74c922N_Fairchild
designator U?, comment MM74C922N
16-Key Encoder
footprint DIP18
pins: 1 ROW Y1, 2 ROW Y2, 3 ROW Y3, 4 ROW Y4, 5 OSC, 6 KBM, 7 COL X4, 8 COL X3, 9 GND (power), 10 COL X2, 11 COL X1, 12 Data Available (out), 13 Output Enable (in), 14 DATA OUT D (out), 15 DATA OUT C (out), 16 DATA OUT B (out), 17 DATA OUT A (out), 18 VCC (power)

## NPN
designator Q?, comment BC817
NPN Bipolar Transistor; Published: 8-Jun-2000; LatestRevisionDate: 29-May-2009; LatestRevisionNote: IPC-7351 Footprint Added.; PackageVersion: Aug-1999; PackageReference: SOT-23B; Publisher: Altium Limited; PackageDescription: 3-Pin SOT-23 Package 0.95 mm Pitch, 2.4 mm Lead Span
signal-integrity model NPN
footprint SOT23_BEC_L (SOT23, 3-Leads, Body 2.9x1.3mm, Pitch 0.95mm, Lead Span 2.4mm, IPC High Density)
footprint SOT23_BEC_M (SOT23, 3-Leads, Body 2.9x1.3mm, Pitch 0.95mm, Lead Span 2.4mm, IPC Low Density)
footprint SOT23_BEC_N (SOT23, 3-Leads, Body 2.9x1.3mm, Pitch 0.95mm, Lead Span 2.4mm, IPC Medium Density)
pins: 1 B, 2 E, 3 C

## OpAmp
designator U?
Dual Low Noise Operational Amplifier (OpAmp)
footprint SOIC8-Narrow (SOIC, 8-Leads, Body 3.0x3.0mm (max), Pitch 1.27mm, IPC Medium Density)
footprint DIP8
part A pins: 1 Output, 2 Inverter Input, 3 Noninverter Input, 4 V-, 8 V+
part B pins: 5 Noninverter Input, 6 Inverter Input, 7 Output
part A text: -; +
part B text: -; +

## payanak
designator *
PAYANAC; Disigner: A.yousefi; Disigne Date: 4/27/2020
footprint payanac

## PNP
designator Q?, comment BC807
PNP Bipolar Transistor; Published: 8-Jun-2000; LatestRevisionDate: 29-May-2009; LatestRevisionNote: IPC-7351 Footprint Added.; PackageVersion: Aug-1999; PackageReference: SOT-23B; Publisher: Altium Limited; PackageDescription: 3-Pin SOT-23 Package 0.95 mm Pitch, 2.4 mm Lead Span
signal-integrity model PNP
footprint SOT23_BEC_N (SOT23, 3-Leads, Body 2.9x1.3mm, Pitch 0.95mm, Lead Span 2.4mm, IPC Medium Density)
footprint SOT23_BEC_M (SOT23, 3-Leads, Body 2.9x1.3mm, Pitch 0.95mm, Lead Span 2.4mm, IPC Low Density)
footprint SOT23_BEC_L (SOT23, 3-Leads, Body 2.9x1.3mm, Pitch 0.95mm, Lead Span 2.4mm, IPC High Density)
pins: 1 B, 2 E, 3 C

## power inductue
designator *
footprint Inductor 10x12 (200 mils) (POWER INDUCTOR 10x12 (200 mils) DESIGNER ABBAS BASEREH)
pins: 1, 2

## Power Jack
designator J?
Designer: Saeid Jorablo; Company: Personal; Project Name: Laser; Adding Date: 10/21/2009
footprint Power Jack
pins: 1 (power), 2 (power), 3 (power)

## power led smd
designator *
footprint POWER LED 1WATT (DESIGNER : ABBAS BASEREH)
footprint POWER LED 1WATT-WITH LENS (DESIGNER : ABBAS BASEREH)
footprint POWER LED 3WATT (DESIGNER : ABBAS BASEREH)
footprint POWER LED 3WATT-WITH LENS (DESIGNER : ABBAS BASEREH)
footprint POWER LED 20~100W (DESIGNER ABBAS BASEREH)
pins: 1, 2

## Relay
designator K?
SPDT Relay; Designer: Eng. Saeid Jorablo; Company: E.P.I.L; Design_Date: 2011/10/31
footprint Relay 15.40x12.10x13.10
footprint Relay 18.85x15.35x15.70
pins: 1 COM, 2 NC, 3 NO, 4 T1, 5 T2

## RELAY NT90TNC12CB
designator *
footprint RELAY NT90TNC12CB (31.7x26.7x28 DESIGNER:ABBAS BASEREH)
pins: 1 COM, 2 T2, 3 T1, 4 NO, 5 NC

## Relay_spdt_power
designator *
footprint Relay Needle 31.7x26.7x28 (DESIGNER ABBAS BASEREH)
pins: 1 COM, 2 NC, 3 NO, 4 T1, 5 T2

## Res Array
designator R?, comment Array Resistor  value 10K
Resistor Pack
footprint Res Array
pins: 1 COM, 2 R1, 3 R2, 4 R3, 5 R4, 6 R5, 7 R6, 8 R7, 9 R8

## Resistor
designator R?, comment Tolerance: 5%  Power: 1/8 W  (hidden comment: 1K)
Resistor; Value: 1K
simulation model Model Name (Model Description)
footprint Res-(1/8)
footprint Res-(1/4)
footprint Res-(1/2)
footprint Res-(1/1)
footprint Res-(2/1)
footprint RES 0201 (0603X03L) (Chip Resistor, 2-Leads, Body 0.6x0.3mm, IPC High Density (0.05 W))
footprint RES 0402 (1005X04L) (Chip Resistor, 2-Leads, Body 1.0x0.5mm, IPC High Density _ (0.031/0.063 W))
footprint RES 0603 (1608X06L) (Chip Resistor, 2-Leads, Body 1.6x0.8mm, IPC High Density _ (0.063W))
footprint RES 0805 (2012X06L) (Chip Resistor, 2-Leads, Body 2.0x1.3mm, IPC High Density _ (0.100 W))
footprint RES 1206 (3216X08L) (Chip Resistor, 2-Leads, Body 3.2x1.6mm, IPC High Density _ (0.125 W))
footprint RES 1210 (3226X07L) (Chip Resistor, 2-Leads, Body 3.2x2.6mm, IPC High Density _ (0.250 W))
footprint RES 1217 (3042X09L) (Chip Resistor, 2-Leads, Body 3.0x4.2mm, IPC High Density _ (0.250 W))
footprint RES 2010 (5026X08L) (Chip Resistor, 2-Leads, Body 5.0x2.6mm, IPC High Density _ (0.250 W))
footprint RES 2020 (5151X09L) (Chip Resistor, 2-Leads, Body 5.1x5.1mm, IPC High Density _ (0.5 W))
footprint RES 2045 (50115X09L) (Chip Resistor, 2-Leads, Body 5.0x11.5mm, IPC High Density _ (1.0 W))
footprint RES 2512 (6331X07L) (Chip Resistor, 2-Leads, Body 6.3x3.1mm, IPC High Density _ (0.500 W))
footprint Res-(1/4)-Stand
footprint Res-(5/1)-Stand
footprint SMD_RES_0603 (Chip Resistor, 2-Leads, Body 1.6x0.8mm, IPC High Density _ (0.063W))
footprint SMD_RES_0805 (Chip Resistor, 2-Leads, Body 2.0x1.3mm, IPC High Density _ (0.100 W))
footprint SMD_RES_1206 (Chip Resistor, 2-Leads, Body 3.2x1.6mm, IPC High Density _ (0.125 W))
pins: 1, 2

## Resistor Variable
designator R?, comment 1K
Variable Resistor; Designer: Saeid Jorablo; Company: ControTec; Adding Date: 137/12/22; Value: 1K
footprint Pot 00
footprint Multi Turn 02
footprint POT 3 (Volume Right)
footprint POT (Voloume)
footprint POT 1 (Trimmer)
footprint Pot 2 (Trimmer)
footprint POT4MM-Small Pot (Square Trimming Potentiometer)
footprint POT4MM-Triming (Square Trimming Potentiometer)
pins: 1 CCW, 2 CW, 3 Setpoint

## SD card 503182-1853
designator *
footprint 503182-1853
pins: 1 DATA2, 2 CD/DAT3, 3 CMD, 4 VDD, 5 CLK, 6 VSS, 7 DAT0, 8 DAT1, DET_T DETECT_TERM, SH1 SHIELD, SH2 SHIELD, SH3 SHIELD, SH4 SHIELD, SH5 SHIELD, SW_T SWITCH_TERM

## SD Card Suntech
designator *
footprint SUNTECH_ST-TF-003A
pins: 1 DAT2 (io), 2 DAT3 (io), 3 CMD (io), 4 VDD (power), 5 CLK (in), 6 VSS, 7 DAT0 (io), 8 DAT1 (io), 9 CD (in), G1 GND, G2 GND, G3 GND, G4 GND

## SD card_tfwf1
designator *
footprint TFWF1-EBXX-1X0X
pins: 1 DATA2, 2 DATA3/CD, 3 CMD, 4 VDD, 5 CLK, 6 VSS, 7 DATA0, 8 DATA1, 9 CD (out), 10 ETH, 11 ETH, 12 ETH, 13 ETH
text: Card Bottom View

## sim800
designator *
footprint SIM800C
pins: 1 USART1_TXD, 2 USART1_RXD, 3 USART1_RTS, 4 USART1_CTS, 5 USART1_DCD, 6 USART1_DTR, 7 USART1_RI, 8 GND, 9 MICP, 10 MICN, 11 SPKP, 12 SPKN, 13 GND, 14 SIM_DET, 15 SIM_DATA, 16 SIM_CLK, 17 SIM_RST, 18 SIM_VDD, 19 GND, 20 BT_ANT, 21 GND, 22 USART2_TXD, 23 USART2_RXD, 24 USB_VBUS, 25 USB_DP, 26 USB_DM, 27 GND, 28 VRTC, 29 RF_SYNC, 30 GND, 31 GND, 32 GSM_ANT, 33 GND, 34 VBAT, 35 VBAT, 36 GND, 37 GND, 38 ADC, 39 PWRKEY, 40 VDD_EXT, 41 NETLIGHT, 42 STATUS

## sim 900
designator *
footprint Sim900
pins: 1, 2, 3, 4, 5, 6, 7, 8, 9, 10, 11, 12, 13, 14, 15, 16, 17, 18, 19, 20, 21, 22, 23, 24, 25, 26, 27, 28, 29, 30, 31, 32, 33, 34, 35, 36, 37, 38, 39, 40, 41, 42, 43, 44, 45, 46, 47, 48, 49, 50, 51, 52, 53, 54, 55, 56, 57, 58, 59, 60, 61, 62, 63, 64, 65, 66, 67, 68
text: GPIO12; GPIO11; PWRKEY; PWRKEY_OUT; GPIO10/KBC0; GPIO9/KBC1; DTR; GPIO8/KBC2; RI; GPIO7/KBC3; DCD; GPIO6/KBC4; DSR; CTS; GPIO5/KBR0; RTS; GPIO4/KBR1; TXD; GPIO3/KBR2; RXD; GPIO2/KBR3; GPIO1/KBR4; VDD_EXT; NRESET; SCL; VRTC; SDA; DBG_TXD; PWM2; DBG_RXD; PWM1; SIM_VDD; ADC; SIM_DATA; SIM_CLK; LINEIN_L; SIM_RST; LINEIN_R; SIM_PRESENCE; SPK_N; NETLIGHT; SPK_P; MIC_N; GND(ANT); MIC_P; RF_ANT; DISP_CS; DISP_D/C; STATUS; DISP_DATA; DISP_CLK; VBAT; GND

## Single Wire
designator W?  Diameter: 1.0 mm  (hidden comment: *)
A Customize Component For Single Wire Connection; Designer: Saeid Jorablo; Company: IPA Co; Adding Date: 1388/04/05; Color: Blue; Wire Name: *
footprint wire 1.0 mm
footprint wire 1.5 mm
footprint wire 2.0 mm
pins: 1 W

## SN7400N
designator U?
Quad 2 Input NAND Gate; Manufacturer: Texas Instrument; Designer: Saeid Jorablo; Company: ControTec; Adding date: 1387/12/22; ComponentLink1Description: DataSheet; ComponentLink1URL: *; Reversion: *
footprint DIP14
part A pins: 1, 2, 3, 7 GND (power), 14 VCC (power)
part B pins: 4, 5, 6
part C pins: 8, 9, 10
part D pins: 11, 12, 13

## SN7402N
designator U?
Quad 2 Input NOR Gate; Manufacturer: Texas Instrument; Designer: Saeid Jorablo; Company: ControTec; Adding Date: 1387/12/22; ComponentLink1Description: DataSheet; ComponentLink1URL: *
footprint DIP14
part A pins: 1, 2, 3, 7 GND, 14 VCC
part B pins: 4, 5, 6
part C pins: 8, 9, 10
part D pins: 11, 12, 13

## SN7404
designator U?, comment SN7404N
Hex Inverter; Manufactorer: Texas Instrument; Designer: Saeid Jorablo; Company: ControTec; Adding Date: 1387/12/22; ComponentLink1Description: Data Sheet; ComponentLink1URL: *
footprint dip14
part A pins: 1, 2, 7 GND (power), 14 VCC (power)
part B pins: 3, 4
part C pins: 5, 6
part D pins: 8, 9
part E pins: 10, 11
part F pins: 12, 13

## SN7408
designator U?
Quad 2 Input AND Gate; Designer: Saeid Jorablo; Company: ControTEK; Adding Date: 1387/01/10
footprint dip14
part A pins: 1, 2, 3, 7 GND (power), 14 VCC (power)
part B pins: 4, 5, 6
part C pins: 8, 9, 10
part D pins: 11, 12, 13

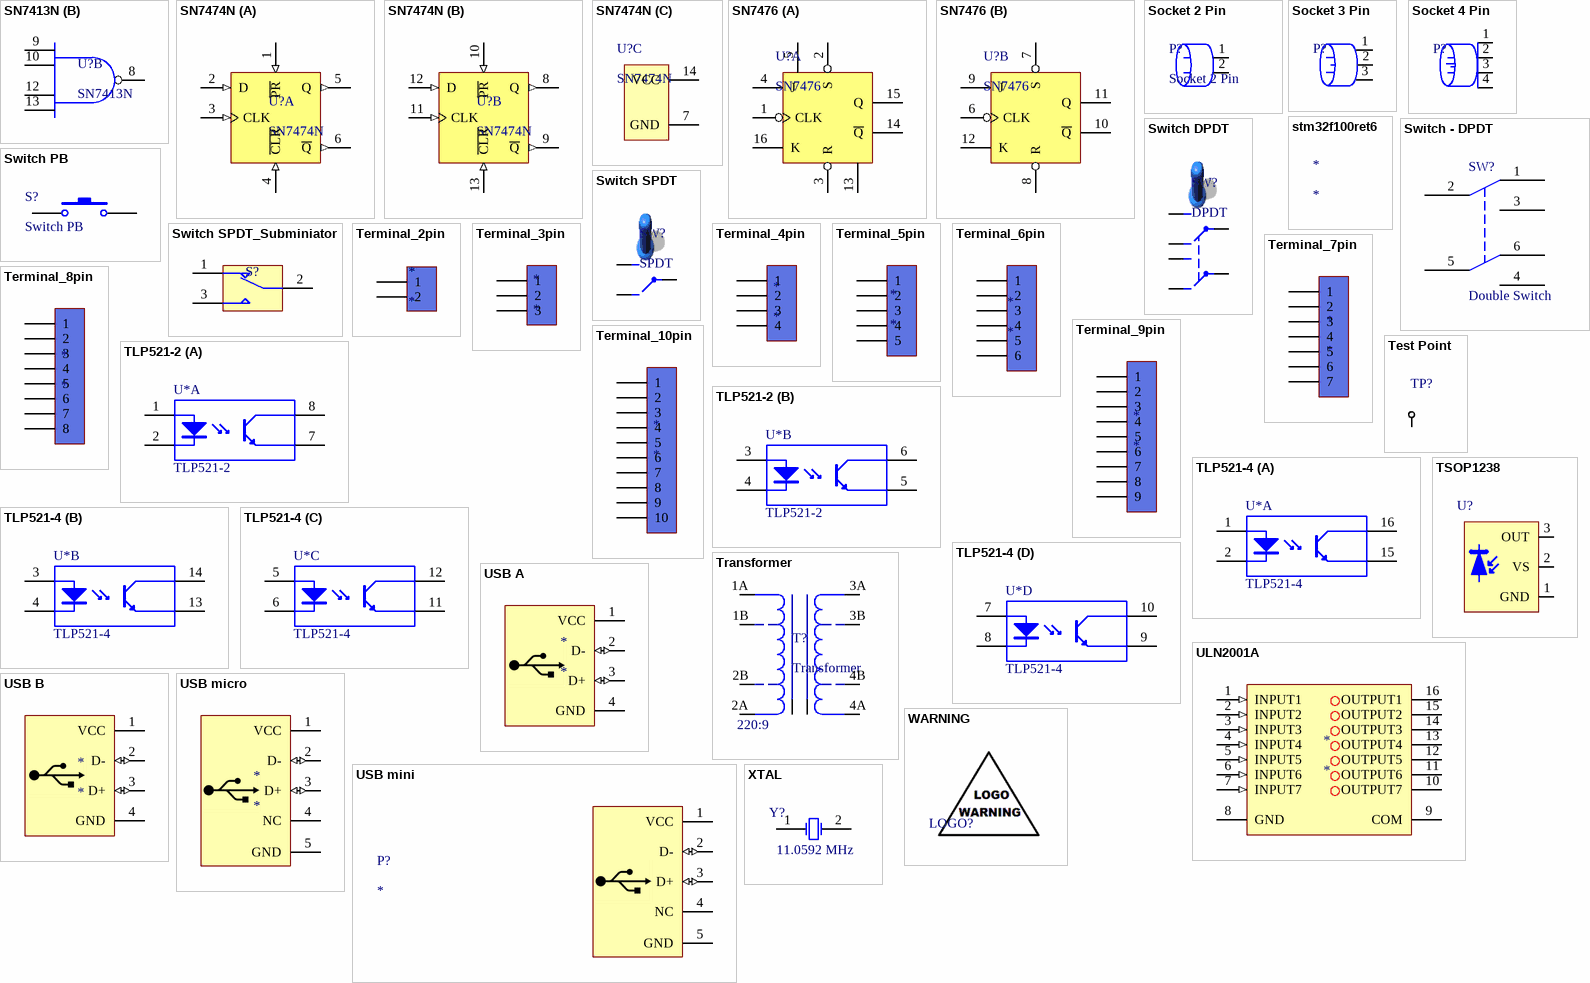
[diagram p3: symbols SN7413N to XTAL]

## SN7413N
designator U?
Dual 4 Input NAND Gate; Manufacturer: Texas Instrument; Designer: Saeid Jorablo; Company: ControTec; Adding Date: 1387/12/12; ComponentLink1Description: Data Sheet; ComponentLink1URL: *
footprint DIP14
part A pins: 1, 2, 4, 5, 6, 7 GND, 14 VCC
part B pins: 8, 9, 10, 12, 13

## SN7474N
designator U?
Dual D Flip Flop; Manufactorer: Texas Instrument; Designer: Saeid Jorablo; Company: ControTec; Adding Date: 1387/12/22; ComponentLink1Description: Data Sheet; ComponentLink1URL: *
footprint dip14
part A pins: 1 ~{PR} (in), 2 D (in), 3 CLK (in), 4 ~{CLR} (in), 5 Q (out), 6 ~{Q} (out)
part B pins: 8 Q (out), 9 ~{Q} (out), 10 ~{PR} (in), 11 CLK (in), 12 D (in), 13 ~{CLR} (in)
part C pins: 7 GND (power), 14 VCC (power)

## SN7476
designator U?
Dual J-K Flip Flop With Set & Reset; Designer: Saeid Jorablo; Company: ControTEK; Adding Date: 1387/01/10
footprint Dip16 (Footprint not found)
signal-integrity model SN7476 (Dual J-K Flip Flop)
part A pins: 1 CLK, 2 S, 3 R, 4 J, 5 VCC (power), 13 GND (power), 14 ~{Q}, 15 Q, 16 K
part B pins: 6 CLK, 7 S, 8 R, 9 J, 10 ~{Q}, 11 Q, 12 K

## Socket 2 Pin
designator P?
Power Input
footprint 2pin
pins: 1, 2

## Socket 3 Pin
designator P?  (value not drawn)
Power Input
footprint 3PIN
pins: 1, 2, 3

## Socket 4 Pin
designator P?  (value not drawn)
Power Input
footprint 4pin
pins: 1, 2, 3, 4

## stm32f100ret6
designator *
footprint LQFP64_L (Thin QFP, 64-Leads, Body 10x10mm, Pitch 0.5mm, IPC High Density)
footprint LQFP64_M (Thin QFP, 64-Leads, Body 10x10mm, Pitch 0.5mm, IPC Low Density)
footprint LQFP64_N (Thin QFP, 64-Leads, Body 10x10mm, Pitch 0.5mm, IPC Medium Density)

## Switch - DPDT
designator SW?, comment Double Switch
DPDT Switch
footprint Switch - DPDT
pins: 1, 2, 3, 4, 5, 6

## Switch DPDT
designator SW?, comment DPDT
DPDT Switch
footprint header 3x2
pins: 1, 2, 3, 4, 5, 6

## Switch PB
designator S?
Push Button Switch
footprint Switch - Push to On
footprint SW-PB
pins: 1, 2

## Switch SPDT
designator SW?, comment SPDT
SPDT Switch; Designer: Saeid Jorablo; Company: ControTEK; Adding Date: 1387/01/10
footprint SW SPDT- Horizontal
footprint Switch SPDT - 500x270x1100x185 mil
footprint Switch SPDT - 500x270x1100x185 mil - Right Angle
pins: 1, 2, 3

## Switch SPDT_Subminiator
designator S?  (value not drawn)
Subminiator SPDT Switch; Company: E.P.I.L; Design date: 2011/11/02
footprint SPDT Subminiator (Subminiator SPDT switch)
pins: 1, 2, 3

## Terminal_2pin
designator *
footprint KF301 2PIN (Designer Abbas Basereh)
pins: 1, 2

## Terminal_3pin
designator *
footprint KF301 3PIN (Designer Abbas Basereh)
pins: 1, 2, 3

## Terminal_4pin
designator *
footprint KF301-4PIN
pins: 1, 2, 3, 4

## Terminal_5pin
designator *
footprint KF301-5PIN
pins: 1, 2, 3, 4, 5

## Terminal_6pin
designator *
footprint KF301-6PIN
pins: 1, 2, 3, 4, 5, 6

## Terminal_7pin
designator *
footprint KF301-7PIN
pins: 1, 2, 3, 4, 5, 6, 7

## Terminal_8pin
designator *
footprint KF301-8PIN
pins: 1, 2, 3, 4, 5, 6, 7, 8

## Terminal_9pin
designator *
footprint KF301-9PIN
pins: 1, 2, 3, 4, 5, 6, 7, 8, 9

## Terminal_10pin
designator *
footprint KF301-10PIN
pins: 1, 2, 3, 4, 5, 6, 7, 8, 9, 10

## Test Point
designator TP?  (value not drawn)
footprint Test Point
footprint Test Point Small
footprint Test_Pin
pins: 1 T

## TLP521-2
designator U*
HIGH DENSITY MOUNTING PHOTOTRANSISTOR OPTICALLY COUPLED ISOLATORS; Company: IPA CO.; Creator: Saeid Jorablo; Creation Date: 1387-1-26
footprint DIP8
part A pins: 1 A, 2 K, 7 E, 8 C
part B pins: 3 A, 4 K, 5 E, 6 C

## TLP521-4
designator U*
HIGH DENSITY MOUNTING PHOTOTRANSISTOR OPTICALLY COUPLED ISOLATORS; Company: IPA CO.; Creator: Saeid Jorablo; Creation Date: 1387-1-26; ComponentLink1Description: datasheet - pdf; ComponentLink1URL: *; ComponentLink2Description: appnote
footprint DIP16
part A pins: 1 A, 2 K, 15 E, 16 C
part B pins: 3 A, 4 K, 13 E, 14 C
part C pins: 5 A, 6 K, 11 E, 12 C
part D pins: 7 A, 8 K, 9 E, 10 C

## Transformer
designator T?  Voltage Ratio: 220:9
Designer: Eng. Saeid Jorablo; Company: DASE CO; Power: 100W; Adding Date: 10/27/2010
footprint Trans- Small
pins: 1A, 1B, 2A, 2B, 3A, 3B, 4A, 4B, SA, SB

## TSOP1238
designator U?  (value not drawn)
Photo Modules for PCM Remote Control Systems; Frequency: 38 KHz; Designer: Saeid Jorablo; Company: IPA CO; Voltage: 5 V; Power: 50 mW; Adding Date: 1388/04/06
footprint TSOP1238 (IR Sensor (TV Sensor))
pins: 1 GND, 2 VS, 3 OUT

## ULN2001A
designator *
SEVEN DARLINGTON ARRAYS; Edit: A.Yousefi; Edit date: 4/27/2020
footprint SO16_L (16-Pin Small Outline Integrated Circuit 1.27 mm Pitch, IPC High Density - DESIGNER ABBAS BASEREH)
footprint SO16_M (16-Pin Small Outline Integrated Circuit 1.27 mm Pitch, IPC Low Density - DESIGNER ABBAS BASEREH)
footprint SO16_N (16-Pin Small Outline Integrated Circuit 1.27 mm Pitch, IPC Medium Density - DESIGNER ABBAS BASEREH)
pins: 1 INPUT1 (in), 2 INPUT2 (in), 3 INPUT3 (in), 4 INPUT4 (in), 5 INPUT5 (in), 6 INPUT6 (in), 7 INPUT7 (in), 8 GND (power), 9 COM (power), 10 OUTPUT7, 11 OUTPUT6, 12 OUTPUT5, 13 OUTPUT4, 14 OUTPUT3, 15 OUTPUT2, 16 OUTPUT1

## USB A
designator *
footprint USB A TYPE Right Angle (Connector; USB1.1, Type A, SM; 4 Position; Right Angle DESIGNER ABBAS BASEREH)
footprint USB2.0-4H4 (Connector; USB1.1, Type A, Thru-Hole; 4 Position; Right Angle DESIGNER ABBAS BASEREH)
footprint USB2.5-2H4C (Connector; USB1.1, Type A, Thru-Hole; 4 Position; Right Angle DESIGNER ABBAS BASEREH)
footprint USB2.5-2V4A (Connector; USB1.1, Type A, Thru-Hole; 4 Position; Vertical DESIGNER ABBAS BASEREH)
pins: 1 VCC (power), 2 D- (io), 3 D+ (io), 4 GND (power)

## USB B
designator *
footprint USB2.5-2H4D (Connector; USB1.1, Type B, Thru-Hole; 4 Position; Right Angle)
footprint USB2.5-2H4E (Connector; USB1.1, Type B, Thru-Hole; 4 Position; Right Angle)
footprint USB2.5-2V4 (Connector; USB1.1, Type B, Thru-Hole; 4 Position; Vertical)
footprint USB2.5-4V4 (Connector; USB1.1, Type B, Thru-Hole; 4 Position; Vertical)
pins: 1 VCC (power), 2 D- (io), 3 D+ (io), 4 GND (power)

## USB micro
designator *
footprint USB_AB_BM_SHS (USB Micro AB - Standard (Bottom mount), Shell SMT DESIGNER ABBAS BASEREH)
footprint USB_AB_receptacle (USB Micro AB - receptacle  DESIGNER ABBAS BASEREH)
pins: 1 VCC (power), 2 D- (io), 3 D+ (io), 4 NC, 5 GND (power)

## USB mini
designator P?
mini USB Connector
footprint mini USB Connector
footprint SMD_Mini USB Connector
footprint USB/SM0.8-6H5 (Connector; USB2.0, Type B, SM; 5 Position; Right Angle)
pins: 1 VCC (power), 2 D- (io), 3 D+ (io), 4 NC, 5 GND (power)

## WARNING
designator LOGO?, comment Warning!  (value not drawn)  (no BOM)
WARNING & LOGO; Company: E.P.I.L; Design Date: 11/6/2011; Value: Warning!
footprint LOGO SPEAKER
footprint LOGO USB
footprint WARNING
footprint WARNING ESD
footprint LOGO RESET
footprint LOGO Saeid

## XTAL
designator Y?, comment 11.0592 MHz
XTAL Crystal; Company: E.P.I.L; Design Date: 11/04/2011; Value: 11.0592 MHz
footprint Crystal SMD
footprint XTAL
footprint XTAL Small
footprint XTAL RTC
footprint XTAL L (Crystal Oscillator)
footprint XTAL 16MHZ (Crystal Oscillator)
pins: 1 OSC1, 2 OSC2

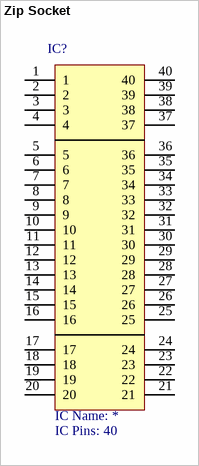
[diagram p4: symbol Zip Socket]

## Zip Socket
designator IC?  IC Pins: 40  (hidden comment: Zip Socket)
40pin Zip/Zif Socket; Company: ECI CO.; Adding Date: 11/25/2011; IC Name: *
footprint DIP40 - Zip Socket
pins: 1, 2, 3, 4, 5, 6, 7, 8, 9, 10, 11, 12, 13, 14, 15, 16, 17, 18, 19, 20, 21, 22, 23, 24, 25, 26, 27, 28, 29, 30, 31, 32, 33, 34, 35, 36, 37, 38, 39, 40